# EAGLE library part BMA220 (library bma220)
The BMA220 is an ultra small triaxial, low-g acceleration sensor with digital interfaces, aiming for low-power consumer market applications.
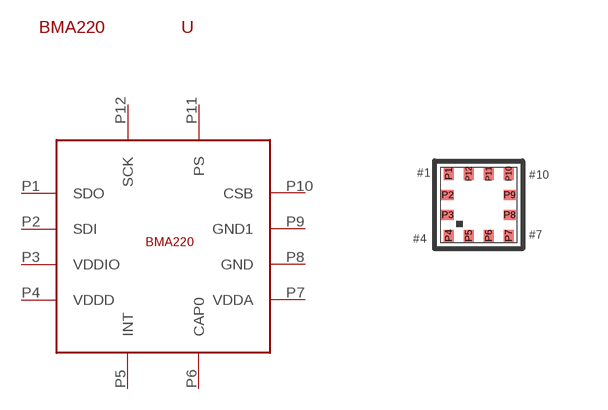
[diagram p0: symbol with the pads of BMA222; footprint BMA222]

Designator prefix -

## BMA220  [BMA222]
P1  SDO
P2  SDI
P3  VDDIO
P4  VDDD
P5  INT
P6  CAP0
P7  VDDA
P8  GND
P9  GND1
P10  CSB
P11  PS
P12  SCK

## Footprint BMA222 (pad centres in mm)
smd 0.25 x 0.3: P1 -0.75,0.775; P4 -0.75,-0.775; P5 -0.25,-0.775; P6 0.25,-0.775; P7 0.75,-0.775; P10 0.75,0.775; P11 0.25,0.775; P12 -0.25,0.775
smd 0.3 x 0.25: P2 -0.775,0.25; P3 -0.775,-0.25; P8 0.775,-0.25; P9 0.775,0.25